# Altium schematic symbol library SAMTEC-TST-110-01-X-D.SCHLIB: 1 symbol
Pins are listed as number, name and electrical type; pins without a type are passive.

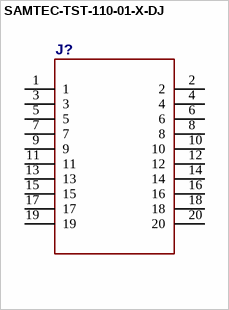
[diagram p0: symbol SAMTEC-TST-110-01-X-DJ]

## SAMTEC-TST-110-01-X-DJ
designator J?
GateName_1: A; SymbolName_1: SAMTEC-TST-110-01-X-DA; DeviceName: J; DeviceSetName: SAMTEC-TST-110-01-X-D; LibraryName: SAMTEC-TST-110-01-X-D; Package: SAMTEC-TST-110-01-X-D
footprint SAMTEC-TST-110-01-X-D
pins: 1, 2, 3, 4, 5, 6, 7, 8, 9, 10, 11, 12, 13, 14, 15, 16, 17, 18, 19, 20